# EAGLE library part 47L16 (library radio-tracker)
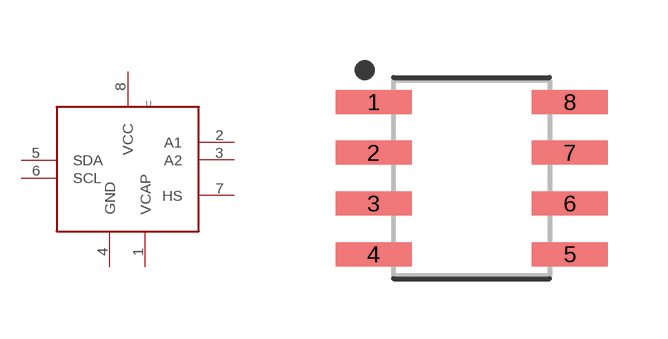
[diagram p10: symbol with the pads of 47L16; footprint 47L16]

Designator prefix U

## 47L16  [47L16]
1  VCAP  pas
2  A1  in
3  A2  in
4  GND  pas
5  SDA
6  SCL  in
7  HS  in
8  VCC  pwr

## Footprint 47L16 (pad centres in mm)
8-SOIC, 1.27 mm pitch, 6.00 mm span, 4.90 X 3.90 X 1.75 mm body 8-pin SOIC package with 1.27 mm pitch, 6.00 mm span with body size 4.90 X 3.90 X 1.75 mm
smd 1.901 x 0.599: 1 -2.455,1.905; 2 -2.455,0.635; 3 -2.455,-0.635; 4 -2.455,-1.905; 5 2.455,-1.905; 6 2.455,-0.635; 7 2.455,0.635; 8 2.455,1.905